# Altium footprint library thesis.PcbLib: 38 footprints (part 2 of 3)
Each footprint in its own frame and in the unit in brackets; x right, y up, seen from the top. Pads: shape width x height; smd on the part's side, far side on the other; paste and mask are expansions set on the pad; w line width, h text height; cw(c..) or ccw(c..) is an arc to the next point about the centre after c.
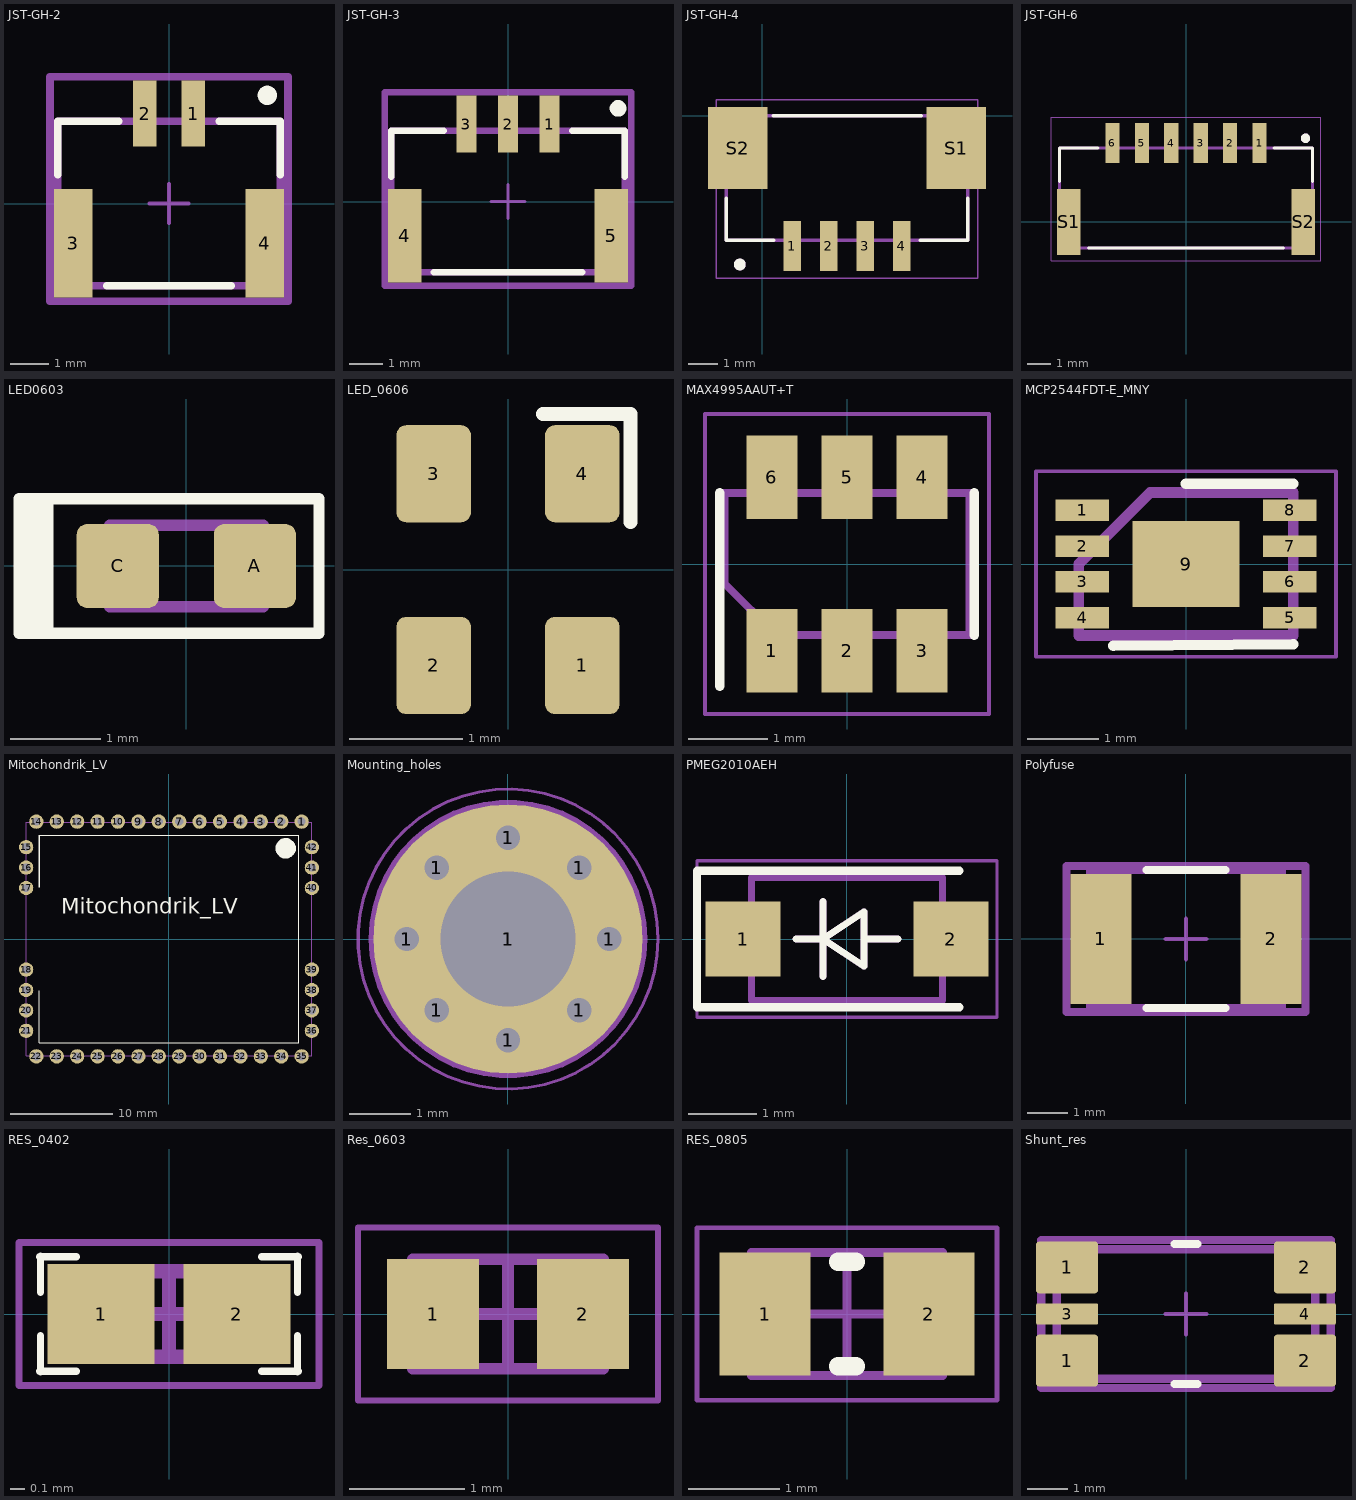
[diagram p1: the footprints below, top view; thin cyan lines are the x and y axes]

## JST-GH-2 [mm] "FP-BM02B-GHS-TBT_LF_SN-MFG"
pads (4):
  rect 0.6x1.7 smd paste+0 mask+0: 1(0.625,2.325) 2(-0.625,2.325)
  rect 1x2.8 smd paste+0 mask+0: 3(-2.475,-1.025) 4(2.475,-1.025)
Top Overlay:
  circle w0.25: c2.54,2.794 r0.125
  lines w0.2: -2.875,0.75 -2.875,2.125 -1.3,2.125 ; -1.6,-2.125 1.6,-2.125 ; 1.3,2.125 2.875,2.125 2.875,0.75
Top 3D Body:
  lines w0.2: -3.075,-2.525 3.075,-2.525 3.075,3.275 -3.075,3.275 -3.075,-2.525
  text ".Designator" at -2.032,0.569 h1
Top Assembly:
  lines w0.1: -0.5,0 0.5,0 ; 0,-0.5 0,0.5
Top Courtyard:
  lines w0.2: -3.075,-2.525 3.075,-2.525 3.075,3.275 -3.075,3.275 -3.075,-2.525
Board:
  lines w0.2: -2.875,-2.125 2.875,-2.125 2.875,2.125 -2.875,2.125 -2.875,-2.125
3D body "Conn_JST_BM02B-GHS-TBT_LF_SN_N_eec.STEP": height 0.25, standoff 0, extent -3.075,-2.525 3.075,3.275

## JST-GH-3 [mm] "FP-BM03B-GHS-TBT_LF_SN-MFG"
pads (5):
  rect 0.6x1.7 smd paste+0 mask+0: 1(1.25,2.325) 2(0,2.325) 3(-1.25,2.325)
  rect 1x2.8 smd paste+0 mask+0: 4(-3.1,-1.025) 5(3.1,-1.025)
Top Overlay:
  circle w0.25: c3.302,2.794 r0.125
  lines w0.2: -3.5,0.75 -3.5,2.125 -1.925,2.125 ; -2.225,-2.125 2.225,-2.125 ; 1.925,2.125 3.5,2.125 3.5,0.75
Top 3D Body:
  lines w0.2: -3.7,-2.525 -3.7,3.275 3.7,3.275 3.7,-2.525 -3.7,-2.525
  text ".Designator" at 0,0.563 h1
Top Assembly:
  lines w0.1: -0.5,0 0.5,0 ; 0,-0.5 0,0.5
Top Courtyard:
  lines w0.2: -3.7,-2.525 -3.7,3.275 3.7,3.275 3.7,-2.525 -3.7,-2.525
Board:
  lines w0.2: -3.5,-2.125 -3.5,2.125 3.5,2.125 3.5,-2.125 -3.5,-2.125
3D body "Conn_JST_BM03B-GHS-TBT_LF_SN_N_eec.STEP": height 0.25, standoff 0, extent -3.7,-2.525 3.7,3.275

## JST-GH-4 [mm]
pads (6):
  rect 0.6x1.7 smd: 1(1.025,-4.45) 2(2.275,-4.45) 3(3.525,-4.45) 4(4.775,-4.45)
  rect 2.032x2.8 smd: S1(6.625,-1.1) S2(-0.825,-1.1)
Top Overlay:
  circle w0.2: c-0.762,-5.08 r0.1
  lines w0.127: -1.225,-2.82 -1.225,-4.25 0.4,-4.25 ; 0.381,0 5.436,0 ; 5.4,-4.25 7.025,-4.25 7.025,-2.82
Top Assembly:
  circle w0.2: c-0.762,-5.08 r0.1
  lines w0.127: -1.225,-4.25 -1.225,0 7.025,0 7.025,-4.25 -1.225,-4.25
Top Courtyard:
  lines w0.05: -1.575,-5.55 -1.575,0.55 7.375,0.55 7.375,-5.55 -1.575,-5.55
3D body "B04MB-GHS-TBT.STEP": height 4.06, standoff -0.04, extent -1.245,-4.671 7.005,0.229

## JST-GH-6 [mm]
pads (8):
  rect 0.6x1.7 smd: 1(3.125,3.35) 2(1.875,3.35) 3(0.625,3.35) 4(-0.625,3.35) 5(-1.875,3.35) 6(-3.125,3.35)
  rect 1x2.8 smd: S1(-4.975,0) S2(4.975,0)
Top Overlay:
  circle w0.2: c5.08,3.556 r0.1
  lines w0.127: -5.375,1.72 -5.375,3.15 -3.75,3.15 ; -4.15,-1.1 4.15,-1.1 ; 3.75,3.15 5.375,3.15 5.375,1.72
Top Assembly:
  circle w0.2: c5.08,3.556 r0.1
  lines w0.127: -5.375,-1.1 5.375,-1.1 5.375,3.15 -5.375,3.15 -5.375,-1.1
Top Courtyard:
  lines w0.05: -5.725,-1.65 5.725,-1.65 5.725,4.45 -5.725,4.45 -5.725,-1.65
3D body "JST-GH-6.STEP": height 4.07, standoff -0.09, extent -5.375,-1.122 5.375,3.841

## LED0603 [mm]
pads (2):
  rrect25% 0.91x0.93 smd: A(0.76,0) C(-0.76,0)
Top Overlay:
  rectangle: -1.854,-0.744 -1.47,0.787
  lines w0.127: -1.854,-0.744 1.47,-0.744 1.47,0.744 -1.854,0.744 -1.854,-0.744
  text ".Designator" at -0.048,-0.45 h0.25
Mechanical 13:
  lines w0.127: -0.85,-0.45 -0.85,0.45 0.85,0.45 0.85,-0.45 -0.85,-0.45
Mechanical 15:
  lines w0.05: -1.854,-0.744 -1.854,0.744 1.47,0.744 1.47,-0.744 -1.854,-0.744
3D body "WL-SMCW SMT LED WURTH ELEKTRONIK 0603.step": height 0.7, standoff 0, extent -0.8,-0.35 0.8,0.35

## LED_0606 [mm]
pads (4):
  rrect25% 0.655x0.855 smd: 1(0.655,-0.845) 2(-0.655,-0.845) 3(-0.655,0.845) 4(0.655,0.845)
Top Overlay:
  lines w0.12: 0.305,1.372 0.978,1.372 1.079,1.372 1.079,0.419
  text ".Designator" at -0.048,-0.45 h0.25
3D body "0606_led.STEP": height 0.51, standoff 0.01, extent -0.8,-0.876 0.8,0.724

## MAX4995AAUT+T [mm]
pads (6):
  rect 0.65x1.06 smd mask+0: 1(-0.95,-1.1) 2(0,-1.1) 3(0.95,-1.1) 4(0.95,1.1) 5(0,1.1) 6(-0.95,1.1)
Top Overlay:
  lines w0.12: -1.61,-1.55 -1.61,0.9 ; 1.61,-0.9 1.61,0.9
  text ".Designator" at -0.12,-0.054 h0.25
Mechanical 3:
  lines w0.05: -1.8,-1.9 -1.8,1.9 1.8,1.9 1.8,-1.9 -1.8,-1.9
Mechanical 5:
  lines w0.1: -1.55,-0.25 -0.9,-0.9 1.55,-0.9 1.55,0.9 -1.55,0.9 -1.55,-0.25
3D body "MAX4995AAUT+CT-ND.step": height 1.45, standoff 0, extent -1.5,-1.5 1.5,1.5

## MCP2544FDT-E_MNY [mm]
pads (9):
  rect 0.75x0.3 smd mask+0: 1(-1.45,0.75) 2(-1.45,0.25) 3(-1.45,-0.25) 4(-1.45,-0.75) 5(1.45,-0.75) 6(1.45,-0.25) 7(1.45,0.25) 8(1.45,0.75)
  rect 1.5x1.2 smd paste-1.75 mask+0: 9(0,0)
Top Overlay:
  lines w0.15: -1.016,-1.143 1.5,-1.125 ; 0,1.125 1.5,1.125
  text ".Designator" at -0.45,-0.952 h0.25
Mechanical 4:
  lines w0.05: -2.1,-1.3 2.1,-1.3 2.1,1.3 -2.1,1.3 -2.1,-1.3
Mechanical 6:
  lines w0.15: -1.5,-1 -1.5,0 -0.5,1 1.5,1 1.5,-1 -1.5,-1
  text "'.Designator'" at -1.016,-0.254 h0.7
3D body "TDFN8_2x3MC_MCH.step": height 0.76, standoff 0, extent -1.499,-1.003 1.499,1.003

## Mitochondrik_LV [mm]
pads (42):
  round 1.4 hole 0.8 paste-1.4 mask+0: 1(13,11.5) 2(11,11.5) 3(9,11.5) 4(7,11.5) 5(5,11.5) 6(3,11.5) 7(1,11.5) 8(-1,11.5) 9(-3,11.5) 10(-5,11.5) 11(-7,11.5) 12(-9,11.5) 13(-11,11.5) 14(-13,11.5) 15(-14,9) 16(-14,7) 17(-14,5) 18(-14,-3) 19(-14,-5) 22(-13,-11.5) 23(-11,-11.5) 24(-9,-11.5) 25(-7,-11.5) 26(-5,-11.5) 27(-3,-11.5) 28(-1,-11.5) 29(1,-11.5) 30(3,-11.5) 31(5,-11.5) 32(7,-11.5) 33(9,-11.5) 34(11,-11.5) 35(13,-11.5) 36(14,-9) 37(14,-7) 38(14,-5) 39(14,-3) 40(14,5) 41(14,7) 42(14,9)
  round 1.4 hole 0.762 paste-1.4 mask+0: 20(-14,-7) 21(-14,-9)
Top Overlay:
  circle w1: c11.43,8.89 r0.5
  lines w0.12: -12.7,-5.08 -12.7,-10.16 12.7,-10.16 12.7,10.16 -12.7,10.16
  lines w0.127: -12.7,5.08 -12.7,10.16
  text "Mitochondrik_LV" at -10.541,2.464 h1.52
Mechanical 6:
  lines w0.12: -13.97,-11.43 -13.97,11.43 13.97,11.43 13.97,-11.43 -13.97,-11.43
3D body "mitochondrik.step": height 7.43, standoff 0.05, extent -14.95,-12.45 14.95,12.45

## Mounting_holes [mm]
pads (18):
  round 0.7 hole 0.4 paste-0.7 mask+0: 1(-1.65,0) 1(-1.65,0) 1(-1.167,-1.167) 1(-1.167,-1.167) 1(-1.167,1.167) 1(-1.167,1.167) 1(0,-1.65) 1(0,-1.65) 1(0,1.65) 1(0,1.65) 1(1.167,-1.167) 1(1.167,-1.167) 1(1.167,1.167) 1(1.167,1.167) 1(1.65,0) 1(1.65,0)
  round 4.4 hole 2.2 paste-4.4 mask+0: 1(0,0) 1(0,0)
Mechanical 4:
  circle w0.05: c0,0 r2.45
  circle w0.05: c0,0 r2.45
Mechanical 6:
  text "H1" at 0.058,-0.277 h1
  text "H1" at 0.058,-0.277 h1
Mechanical 7:
  circle w0.15: c0,0 r2.2
  circle w0.15: c0,0 r2.2

## PMEG2010AEH [mm] "SOD-123F"
pads (2):
  rect 1.1x1.1 smd mask+0: 1(-1.524,0) 2(1.524,0)
Top Overlay:
  lines w0.1: -0.75,0 -0.35,0 ; -0.35,-0.55 -0.35,0 ; -0.35,0.55 -0.35,0 ; 0.25,0 0.75,0 ; -0.35,0 0.25,0.4 0.25,-0.4 -0.35,0
  lines w0.12: 1.65,-1 -2.2,-1 -2.2,1 1.65,1
  text ".Designator" at -1.11,-0.8 h0.25
Mechanical 4:
  lines w0.05: -2.2,-1.15 -2.2,1.15 2.2,1.15 2.2,-1.15 -2.2,-1.15
Mechanical 6:
  lines w0.1: -0.75,0 -0.35,0 ; -0.35,-0.55 -0.35,0 ; -0.35,0.55 -0.35,0 ; 0.25,0 0.75,0 ; -0.35,0 0.25,0.4 0.25,-0.4 -0.35,0 ; -1.4,-0.9 1.4,-0.9 1.4,0.9 -1.4,0.9 -1.4,-0.9
3D body "SOD123F_NXP.step": height 1.2, standoff 0, extent -1.803,-0.851 1.803,0.851

## Polyfuse [mm]
pads (2):
  rect 1.5x3.2 smd paste+0 mask+0: 1(-2.1,0) 2(2.1,0)
Top Overlay:
  lines w0.2: -0.975,-1.705 0.975,-1.705 ; -0.975,1.705 0.975,1.705
  text ".Designator" at -0.526,-0.978 h0.25
Top 3D Body:
  lines w0.2: -2.365,-1.705 2.365,-1.705 2.365,1.705 -2.365,1.705 -2.365,-1.705
Top Assembly:
  lines w0.2: -2.95,-1.805 2.95,-1.805 2.95,1.805 -2.95,1.805 -2.95,-1.805
Top Component Center:
  lines w0.1: -0.5,0 0.5,0 ; 0,-0.5 0,0.5
  lines w0.2: -2.95,-1.805 2.95,-1.805 2.95,1.805 -2.95,1.805 -2.95,-1.805
3D body "Fuse_Bourns_MF-MSMF014-2_eec.STEP": height 0.25, standoff 0, extent -2.95,-1.805 2.95,1.805

## RES_0402 [mm] "Chip Resistor, 2-Leads, Body 1.00x0.50mm, IPC Low Density"
height 0.4
pads (2):
  rect 0.75x0.7 smd: 1(-0.475,0) 2(0.475,0)
Top Overlay:
  lines w0.051: -0.904,-0.4 -0.65,-0.4 ; -0.904,0.4 -0.65,0.4 ; -0.9,-0.404 -0.9,-0.15 ; -0.9,0.15 -0.9,0.404 ; 0.65,-0.4 0.904,-0.4 ; 0.65,0.4 0.904,0.4 ; 0.9,-0.404 0.9,-0.15 ; 0.9,0.15 0.9,0.404
Mechanical 5:
  text "'.Designator'" at -1.4,0.6 h1
Mechanical 13:
  lines w0.1: -0.55,-0.3 -0.55,0.3 0.55,0.3 0.55,-0.3 -0.55,-0.3
Mechanical 15:
  lines w0.05: -1.05,-0.5 -1.05,0.5 1.05,0.5 1.05,-0.5 -1.05,-0.5
  lines w0.1: -0.3,0 0.3,0 ; 0,-0.3 0,0.3
3D body "RES0402.STEP": height 0.36, standoff 0.01, extent -0.5,-0.25 0.5,0.25

## Res_0603 [mm]
pads (2):
  rect 0.8x0.95 smd: 1(-0.65,0) 2(0.65,0)
Top Overlay:
  text ".Designator" at 0.063,-0.018 h0.25
Mechanical 13:
  lines w0.1: -0.825,-0.475 0.825,-0.475 0.825,0.475 -0.825,0.475 -0.825,-0.475
Mechanical 15:
  lines w0.05: -1.3,-0.75 1.3,-0.75 1.3,0.75 -1.3,0.75 -1.3,-0.75
  lines w0.1: -0.475,0 0.475,0 ; 0,-0.475 0,0.475
3D body "RESC1608X05N.step": height 0.5, standoff 0, extent -0.825,-0.475 0.825,0.475

## RES_0805 [mm]
pads (2):
  rect 1x1.35 smd: 1(-0.9,0) 2(0.9,0)
Top Overlay:
  lines w0.2: -0.1,-0.575 0.1,-0.575 ; -0.1,0.575 0.1,0.575
  text ".Designator" at 0.063,-0.018 h0.25
Mechanical 13:
  lines w0.1: -1.05,-0.675 1.05,-0.675 1.05,0.675 -1.05,0.675 -1.05,-0.675
Mechanical 15:
  lines w0.05: -1.65,-0.95 1.65,-0.95 1.65,0.95 -1.65,0.95 -1.65,-0.95
  lines w0.1: -0.5,0 0.5,0 ; 0,-0.5 0,0.5
3D body "RESC2012X06N.step": height 0.6, standoff 0, extent -1.05,-0.675 1.05,0.675

## Shunt_res [mil]
pads (6):
  rrect12% 60x50 smd mask+0: 1(-115,-45) 1(-115,45) 2(115,-45) 2(115,45)
  rrect12% 60x20 smd mask+0: 3(-115,0) 4(115,0)
Top Overlay:
  lines w7.87: -11.13,-67.6 11.13,-67.6 ; -11.13,67.6 11.13,67.6
  text ".Designator" at 0,3.75 h20
Top 3D Body:
  lines w7.87: -125,-62.6 -125,62.6 125,62.6 125,-62.6 -125,-62.6
Top Assembly:
  lines w7.87: -139.94,-71.54 -139.94,71.54 139.94,71.54 139.94,-71.54 -139.94,-71.54
Top Component Center:
  lines w3.94: -19.68,0 19.68,0 ; 0,-19.68 0,19.68
  lines w7.87: -139.94,-71.54 -139.94,71.54 139.94,71.54 139.94,-71.54 -139.94,-71.54
3D body "Res_Vishay_WSLP25122L000FEA_eec.STEP": height 10, standoff 0, extent -139.94,-71.54 139.94,71.54